# EAGLE library part AE45275H-611 (library saw-filters-narrowband)
AE45275H-611 Параметр Ед. изм. Мин. значение Тип. значение Макс. значение Центральная частота МГц 610.5 611 611.5 Минимальное вносимое затухание дБ - 4.2 4.5 Полоса среза по уровню -1 дБ МГц 6.3 6.5 - Полоса среза по уровню -40 дБ МГц - 25 - Неравномерность АЧХ дБ - 0.6 1 Групповое время задержки нс - 23 - Гарантированное затухание дБ - 50 - Температурный диапазон °C -55 22 +85 Материал подложки - - Танталат лития 36 -
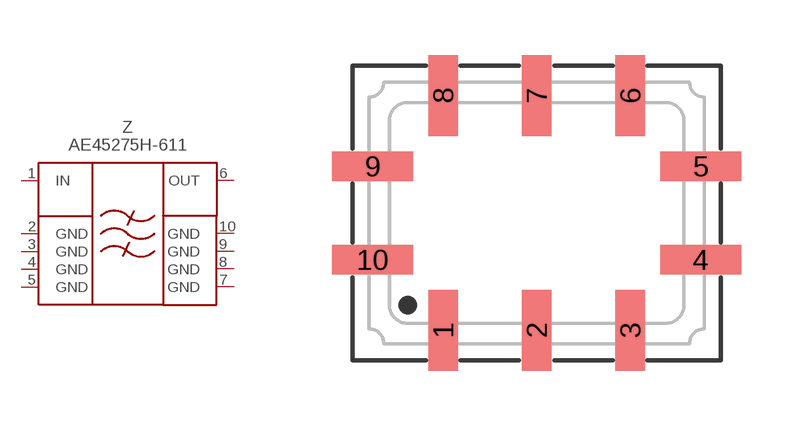
[diagram p173: symbol with the pads of QCC10-1; footprint QCC10-1]

Designator prefix Z

## AE45275H-611  [QCC10-1]
1  IN  in
2  GND  pwr
3  GND  pwr
4  GND  pwr
5  GND  pwr
6  OUT  out
7  GND  pwr
8  GND  pwr
9  GND  pwr
10  GND  pwr

## Footprint QCC10-1 (pad centres in mm)
smd 0.8 x 2.2: 1 -2.54,-3.185; 2 0,-3.185; 3 2.54,-3.185; 6 2.54,3.185; 7 0,3.185; 8 -2.54,3.185
smd 2.2 x 0.8: 4 4.455,-1.27; 5 4.455,1.27; 9 -4.455,1.27; 10 -4.455,-1.27